# Altium footprint library Inductors SMD.PcbLib: 75 footprints (part 2 of 5)
Each footprint in its own frame and in the unit in brackets; x right, y up, seen from the top. Pads: shape width x height; smd on the part's side, far side on the other; paste and mask are expansions set on the pad; w line width, h text height; cw(c..) or ccw(c..) is an arc to the next point about the centre after c.
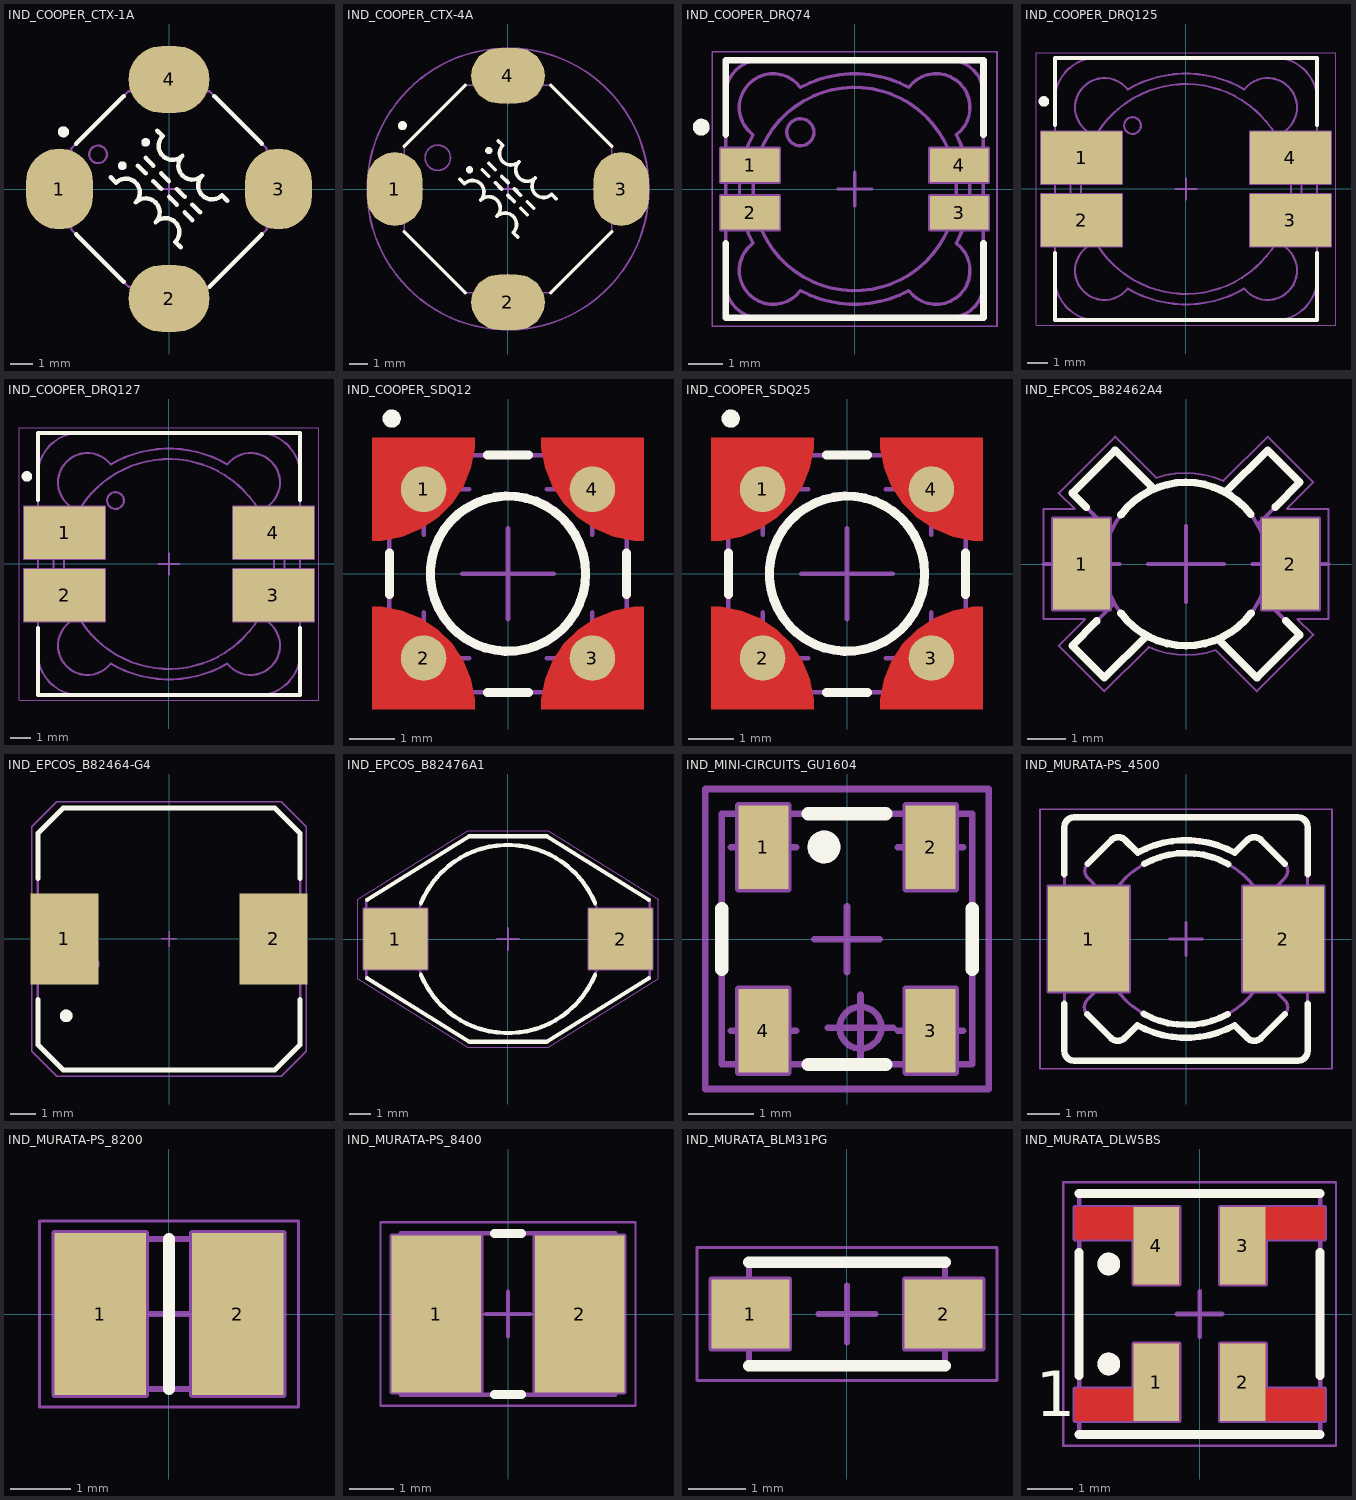
[diagram p1: the footprints below, top view; thin cyan lines are the x and y axes]

## IND_COOPER_CTX-1A [mm] "Dual Winding Shielded Power Inductor/Transformer CTX OCTA-PAC® PLUS Serie"
height 4.19
pads (4):
  oval 3.04x3.68 smd: 1(-4.98,0) 3(4.98,0)
  oval 3.68x3.04 smd: 2(0,-4.98) 4(0,4.98)
Top Overlay:
  circle w0.25: c-4.8,2.6 r0.125
  circle w0.2: c-2.121,1.061 r0.1
  circle w0.2: c-1.061,2.121 r0.1
  lines w0.2: -2.652,0.53 -2.408,0.286 cw(c-1.959,-0.163) -1.51,-0.612 cw(c-1.061,-1.061) -0.612,-1.51 cw(c-0.163,-1.959) 0.286,-2.408 0.53,-2.652 ; -1.414,1.061 -1.061,0.707 ; -1.061,1.414 -0.707,1.061 ; -0.707,0.354 -0.354,0 ; -0.53,2.652 -0.286,2.408 ccw(c0.163,1.959) 0.612,1.51 ccw(c1.061,1.061) 1.51,0.612 ccw(c1.959,0.163) 2.408,-0.286 2.652,-0.53 ; -0.354,0.707 0,0.354 ; 0,-0.354 0.354,-0.707 ; 0.354,0 0.707,-0.354 ; 0.707,-1.061 1.061,-1.414 ; 1.061,-0.707 1.414,-1.061 ; -4.225,2.06 -2.06,4.225 -4.225,2.06 ; -4.225,-2.06 -2.06,-4.225 -4.225,-2.06 ; 1.84,-4.445 4.225,-2.06 1.84,-4.445 ; 2.06,4.225 4.225,2.06 2.06,4.225
Mechanical 8:
  lines w0.1: -4.98,0 -4.98,-0.5 -4.98,0 ; -4.98,0 -4.48,0 -4.98,0 ; -4.98,0 -4.98,0.5 -4.98,0 ; -4.98,0 -5.48,0 -4.98,0 ; 0,-4.98 -0.5,-4.98 0,-4.98 ; 0,-4.98 0,-5.48 0,-4.98 ; 0,-4.98 0.5,-4.98 0,-4.98 ; 0,-4.98 0,-4.48 0,-4.98 ; 0,0 -0.5,0 0,0 ; 0,0 0,-0.5 0,0 ; 0,0 0.5,0 0,0 ; 0,0 0,0.5 0,0 ; 0,4.98 -0.5,4.98 0,4.98 ; 0,4.98 0,4.48 0,4.98 ; 0,4.98 0.5,4.98 0,4.98 ; 0,4.98 0,5.48 0,4.98 ; 4.98,0 4.98,-0.5 4.98,0 ; 4.98,0 5.48,0 4.98,0 ; 4.98,0 4.98,0.5 4.98,0 ; 4.98,0 4.48,0 4.98,0
Mechanical 14:
  circle w0.1: c-2.121,1.061 r0.1
  circle w0.1: c-1.061,2.121 r0.1
  circle w0.1: c-3.225,1.575 r0.4
  lines w0.1: -2.652,0.53 -2.408,0.286 cw(c-1.959,-0.163) -1.51,-0.612 cw(c-1.061,-1.061) -0.612,-1.51 cw(c-0.163,-1.959) 0.286,-2.408 0.53,-2.652 ; -1.414,1.061 -1.061,0.707 ; -1.061,1.414 -0.707,1.061 ; -0.707,0.354 -0.354,0 ; -0.53,2.652 -0.286,2.408 ccw(c0.163,1.959) 0.612,1.51 ccw(c1.061,1.061) 1.51,0.612 ccw(c1.959,0.163) 2.408,-0.286 2.652,-0.53 ; -0.354,0.707 0,0.354 ; 0,-0.354 0.354,-0.707 ; 0.354,0 0.707,-0.354 ; 0.707,-1.061 1.061,-1.414 ; 1.061,-0.707 1.414,-1.061 ; -5.715,-0.6 -5.715,0.6 ; -5.715,-0.6 -4.445,-0.6 ; -5.715,-0.6 -5.715,0.6 ; -5.715,-0.6 -4.445,-0.6 ; -5.715,0.6 -4.445,0.6 ; -5.715,0.6 -4.445,0.6 ; -4.445,-1.84 -1.84,-4.445 ; -4.445,-1.84 -4.445,1.84 ; -4.445,-1.84 -1.84,-4.445 ; -4.445,-1.84 -4.445,1.84 ; -4.445,-0.6 -4.445,0.6 ; -4.445,-0.6 -4.445,0.6 ; -4.445,1.84 -1.84,4.445 ; -4.445,1.84 -1.84,4.445 ; -1.84,-4.445 1.84,-4.445 ; -1.84,-4.445 1.84,-4.445 ; -1.84,4.445 1.84,4.445 ; -1.84,4.445 1.84,4.445 ; -0.6,-5.715 0.6,-5.715 ; -0.6,-5.715 -0.6,-4.445 ; -0.6,-5.715 0.6,-5.715 ; -0.6,-5.715 -0.6,-4.445 ; -0.6,-4.445 0.6,-4.445 ; -0.6,-4.445 0.6,-4.445 ; -0.6,4.445 -0.6,5.715 ; -0.6,4.445 0.6,4.445 ; -0.6,4.445 -0.6,5.715 ; -0.6,4.445 0.6,4.445 ; -0.6,5.715 0.6,5.715 ; -0.6,5.715 0.6,5.715 ; 0.6,-5.715 0.6,-4.445 ; 0.6,-5.715 0.6,-4.445 ; 0.6,4.445 0.6,5.715 ; 0.6,4.445 0.6,5.715 ; 1.84,-4.445 4.445,-1.84 ; 1.84,-4.445 4.445,-1.84 ; 1.84,4.445 4.445,1.84 ; 1.84,4.445 4.445,1.84 ; 4.445,-1.84 4.445,1.84 ; 4.445,-1.84 4.445,1.84 ; 4.445,-0.6 4.445,0.6 ; 4.445,-0.6 5.715,-0.6 ; 4.445,-0.6 4.445,0.6 ; 4.445,-0.6 5.715,-0.6 ; 4.445,0.6 5.715,0.6 ; 4.445,0.6 5.715,0.6 ; 5.715,-0.6 5.715,0.6 ; 5.715,-0.6 5.715,0.6
  text "3" at 3.225,-0.65 h1.2
  text "4" at -0.425,2.75 h1.2
  text "2" at -0.425,-4 h1.2
  text "1" at -3.825,-0.575 h1.2
3D body "IND_COOPER_CTX-1A.stp": height 4.19, standoff 0, extent -5.715,-5.715 5.715,5.715

## IND_COOPER_CTX-4A [mm] "Dual Winding Shielded Power Inductor/Transformer CTX OCTA-PAC® PLUS Serie"
height 6.35
pads (4):
  oval 3.05x4.06 smd: 1(-6.25,0) 3(6.25,0)
  oval 4.06x3.05 smd: 2(0,-6.25) 4(0,6.25)
Top Overlay:
  circle w0.25: c-5.825,3.5 r0.125
  circle w0.2: c-2.121,1.061 r0.1
  circle w0.2: c-1.061,2.121 r0.1
  lines w0.2: -5.722,-2.36 -2.36,-5.722 ; -5.722,2.36 -2.36,5.722 ; -2.652,0.53 -2.408,0.286 cw(c-1.959,-0.163) -1.51,-0.612 cw(c-1.061,-1.061) -0.612,-1.51 cw(c-0.163,-1.959) 0.286,-2.408 0.53,-2.652 ; -1.414,1.061 -1.061,0.707 ; -1.061,1.414 -0.707,1.061 ; -0.707,0.354 -0.354,0 ; -0.53,2.652 -0.286,2.408 ccw(c0.163,1.959) 0.612,1.51 ccw(c1.061,1.061) 1.51,0.612 ccw(c1.959,0.163) 2.408,-0.286 2.652,-0.53 ; -0.354,0.707 0,0.354 ; 0,-0.354 0.354,-0.707 ; 0.354,0 0.707,-0.354 ; 0.707,-1.061 1.061,-1.414 ; 1.061,-0.707 1.414,-1.061 ; 2.36,-5.722 5.722,-2.36 ; 2.36,5.722 5.722,2.36
Mechanical 8:
  lines w0.1: -7.775,0 -4.725,0 -6.25,0 ; -6.25,-2.03 -6.25,0 ; -6.25,2.03 -6.25,0 ; -2.03,6.25 0,6.25 ; -0.5,0 0,0 ; 0,-7.775 0,-6.25 ; 0,-4.725 0,-6.25 ; 0,-0.5 0,0 ; 0,0.5 0,0 ; 0,4.725 0,6.25 ; 0,7.775 0,6.25 ; 0.5,0 0,0 ; 2.03,-6.25 -2.03,-6.25 0,-6.25 ; 2.03,6.25 0,6.25 ; 4.725,0 6.25,0 ; 6.25,-2.03 6.25,0 ; 6.25,2.03 6.25,0 ; 7.775,0 6.25,0
Mechanical 14:
  circle w0.1: c-2.121,1.061 r0.1
  circle w0.1: c-1.061,2.121 r0.1
  circle w0.1: c-3.875,1.725 r0.7
  lines w0.1: -5.722,-1.18 -7.285,-1.18 -7.285,1.18 -5.722,1.18 ; -2.652,0.53 -2.408,0.286 cw(c-1.959,-0.163) -1.51,-0.612 cw(c-1.061,-1.061) -0.612,-1.51 cw(c-0.163,-1.959) 0.286,-2.408 0.53,-2.652 ; -1.414,1.061 -1.061,0.707 ; -1.18,-5.722 -1.18,-7.285 1.18,-7.285 1.18,-5.722 ; -1.18,5.722 -1.18,7.285 1.18,7.285 1.18,5.722 ; -1.061,1.414 -0.707,1.061 ; -0.707,0.354 -0.354,0 ; -0.53,2.652 -0.286,2.408 ccw(c0.163,1.959) 0.612,1.51 ccw(c1.061,1.061) 1.51,0.612 ccw(c1.959,0.163) 2.408,-0.286 2.652,-0.53 ; -0.354,0.707 0,0.354 ; 0,-0.354 0.354,-0.707 ; 0.354,0 0.707,-0.354 ; 0.707,-1.061 1.061,-1.414 ; 1.061,-0.707 1.414,-1.061 ; 5.722,-1.18 7.285,-1.18 7.285,1.18 5.722,1.18 ; -5.722,-2.36 -5.722,2.36 -2.36,5.722 2.36,5.722 5.722,2.36 5.722,-2.36 2.36,-5.722 -2.36,-5.722 -5.722,-2.36
  text "3" at 3.225,-0.65 h1.2
  text "4" at -0.425,2.75 h1.2
  text "2" at -0.425,-4 h1.2
  text "1" at -3.825,-0.575 h1.2
Mechanical 15:
  circle w0.1: c0,0 r7.775
3D body "IND_COOPER_CTX-4A.stp": height 6.35, standoff 0, extent -7.285,-7.285 7.285,7.285

## IND_COOPER_DRQ74 [mm] "Dual Winding Shielded Inductor/Transformer DRQ Serie"
height 4.45
pads (4):
  rect 1.73x1 smd: 1(-3.085,0.7) 2(-3.085,-0.7) 3(3.085,-0.7) 4(3.085,0.7)
Top Overlay:
  circle w0.25: c-4.525,1.825 r0.125
  lines w0.2: -3.8,-1.6 -3.8,-3.8 3.8,-3.8 3.8,-1.6 ; -3.8,1.6 -3.8,3.8 3.8,3.8 3.8,1.6
Mechanical 8:
  lines w0.1: -3.585,-0.7 -3.085,-0.7 ; -3.585,0.7 -3.085,0.7 ; -3.085,-1.2 -3.085,-0.7 ; -3.085,-0.2 -3.085,-0.7 ; -3.085,0.2 -3.085,0.7 ; -3.085,1.2 -3.085,0.7 ; -2.585,-0.7 -3.085,-0.7 ; -2.585,0.7 -3.085,0.7 ; -0.5,0 0,0 ; 0,-0.5 0,0 ; 0,0.5 0,0 ; 0.5,0 0,0 ; 2.585,-0.7 3.085,-0.7 ; 2.585,0.7 3.085,0.7 ; 3.085,-1.2 3.085,-0.7 ; 3.085,-0.2 3.085,-0.7 ; 3.085,0.2 3.085,0.7 ; 3.085,1.2 3.085,0.7 ; 3.585,-0.7 3.085,-0.7 ; 3.585,0.7 3.085,0.7 ; -3.95,-1.2 -3.95,-0.2 -2.22,-0.2 -2.22,-1.2 -3.95,-1.2 ; -3.95,0.2 -3.95,1.2 -2.22,1.2 -2.22,0.2 -3.95,0.2 ; 2.22,-1.2 2.22,-0.2 3.95,-0.2 3.95,-1.2 2.22,-1.2 ; 2.22,0.2 2.22,1.2 3.95,1.2 3.95,0.2 2.22,0.2
Mechanical 14:
  circle w0.1: c-1.6,1.675 r0.4
  circle w0.1: c0,0 r3
  lines w0.1: -3.8,-2.8 ccw(c-2.8,-2.8) -2.8,-3.8 2.8,-3.8 ccw(c2.8,-2.8) 3.8,-2.8 3.8,2.8 ccw(c2.8,2.8) 2.8,3.8 -2.8,3.8 ccw(c-2.8,2.8) -3.8,2.8 -3.8,-2.8 ; -3,-1.601 cw(c0,0) -3,1.601 cw(c-2.404,2.404) -1.601,3 cw(c0,0) 1.601,3 cw(c2.404,2.404) 3,1.601 cw(c0,0) 3,-1.601 cw(c2.404,-2.404) 1.601,-3 cw(c0,0) -1.601,-3 cw(c-2.404,-2.404) -3,-1.601
Mechanical 15:
  lines w0.05: -4.2,-4.05 4.2,-4.05 4.2,4.05 -4.2,4.05 -4.2,-4.05
3D body "IND_COOPER_DRQ74.stp": height 4.45, standoff 0, extent -3.8,-3.8 3.8,3.8

## IND_COOPER_DRQ125 [mm] "Dual Winding Shielded Inductor/Transformer DRQ Serie"
height 6
pads (4):
  rect 3.85x2.5 smd: 1(-4.975,1.5) 2(-4.975,-1.5) 3(4.975,-1.5) 4(4.975,1.5)
Top Overlay:
  circle w0.25: c-6.775,4.175 r0.125
  lines w0.2: -6.25,-3.05 -6.25,-6.25 6.25,-6.25 6.25,-3.05 ; -6.25,3.05 -6.25,6.25 6.25,6.25 6.25,3.05
Mechanical 8:
  lines w0.1: -5.475,-1.5 -4.975,-1.5 ; -5.475,1.5 -4.975,1.5 ; -4.975,-2 -4.975,-1.5 ; -4.975,-1 -4.975,-1.5 ; -4.975,1 -4.975,1.5 ; -4.975,2 -4.975,1.5 ; -4.475,-1.5 -4.975,-1.5 ; -4.475,1.5 -4.975,1.5 ; -0.5,0 0,0 ; 0,-0.5 0,0 ; 0,0.5 0,0 ; 0.5,0 0,0 ; 4.475,1.5 4.975,1.5 ; 4.975,1 4.975,1.5 ; 4.975,2 4.975,1.5 ; 5.475,1.5 4.975,1.5 ; -6.9,-2.75 -6.9,-0.25 -3.05,-0.25 -3.05,-2.75 -6.9,-2.75 ; -6.9,0.25 -6.9,2.75 -3.05,2.75 -3.05,0.25 -6.9,0.25 ; 3.05,-2.75 3.05,-0.25 6.9,-0.25 6.9,-2.75 3.05,-2.75 ; 3.05,0.25 3.05,2.75 6.9,2.75 6.9,0.25 3.05,0.25
Mechanical 14:
  circle w0.1: c-2.55,3.025 r0.4
  circle w0.1: c0,0 r5
  lines w0.1: -4.25,6.25 ccw(c-4.25,4.25) -6.25,4.25 -6.25,-4.25 ccw(c-4.25,-4.25) -4.25,-6.25 4.25,-6.25 ccw(c4.25,-4.25) 6.25,-4.25 6.25,4.25 ccw(c4.25,4.25) 4.25,6.25 ; -4.25,6.25 4.25,6.25 ; -4.25,6.25 4.25,6.25 ; -4.745,-2.781 cw(c0,0) -4.745,2.781 cw(c-3.889,3.889) -2.781,4.745 cw(c0,0) 2.781,4.745 cw(c3.889,3.889) 4.745,2.781 cw(c0,0) 4.745,-2.781 cw(c3.889,-3.889) 2.781,-4.745 cw(c0,0) -2.781,-4.745 cw(c-3.889,-3.889) -4.745,-2.781
Mechanical 15:
  lines w0.05: -7.15,-6.5 -7.15,6.5 7.15,6.5 7.15,-6.5 -7.15,-6.5
3D body "IND_COOPER_DRQ125.stp": height 6, standoff 0, extent -6.25,-6.25 6.25,6.25

## IND_COOPER_DRQ127 [mm] "Dual Winding Shielded Inductor/Transformer DRQ Serie"
height 8
pads (4):
  rect 3.85x2.5 smd: 1(-4.975,1.5) 2(-4.975,-1.5) 3(4.975,-1.5) 4(4.975,1.5)
Top Overlay:
  circle w0.25: c-6.775,4.175 r0.125
  lines w0.2: -6.25,-3.05 -6.25,-6.25 6.25,-6.25 6.25,-3.05 ; -6.25,3.05 -6.25,6.25 6.25,6.25 6.25,3.05
Mechanical 8:
  lines w0.1: -5.475,-1.5 -4.975,-1.5 ; -5.475,1.5 -4.975,1.5 ; -4.975,-2 -4.975,-1.5 ; -4.975,-1 -4.975,-1.5 ; -4.975,1 -4.975,1.5 ; -4.975,2 -4.975,1.5 ; -4.475,-1.5 -4.975,-1.5 ; -4.475,1.5 -4.975,1.5 ; -0.5,0 0,0 ; 0,-0.5 0,0 ; 0,0.5 0,0 ; 0.5,0 0,0 ; 4.475,1.5 4.975,1.5 ; 4.975,1 4.975,1.5 ; 4.975,2 4.975,1.5 ; 5.475,1.5 4.975,1.5 ; -6.9,-2.75 -6.9,-0.25 -3.05,-0.25 -3.05,-2.75 -6.9,-2.75 ; -6.9,0.25 -6.9,2.75 -3.05,2.75 -3.05,0.25 -6.9,0.25 ; 3.05,-2.75 3.05,-0.25 6.9,-0.25 6.9,-2.75 3.05,-2.75 ; 3.05,0.25 3.05,2.75 6.9,2.75 6.9,0.25 3.05,0.25
Mechanical 14:
  circle w0.1: c-2.55,3.025 r0.4
  circle w0.1: c0,0 r5
  lines w0.1: -4.25,6.25 ccw(c-4.25,4.25) -6.25,4.25 -6.25,-4.25 ccw(c-4.25,-4.25) -4.25,-6.25 4.25,-6.25 ccw(c4.25,-4.25) 6.25,-4.25 6.25,4.25 ccw(c4.25,4.25) 4.25,6.25 ; -4.25,6.25 4.25,6.25 ; -4.25,6.25 4.25,6.25 ; -4.745,-2.781 cw(c0,0) -4.745,2.781 cw(c-3.889,3.889) -2.781,4.745 cw(c0,0) 2.781,4.745 cw(c3.889,3.889) 4.745,2.781 cw(c0,0) 4.745,-2.781 cw(c3.889,-3.889) 2.781,-4.745 cw(c0,0) -2.781,-4.745 cw(c-3.889,-3.889) -4.745,-2.781
Mechanical 15:
  lines w0.05: -7.15,-6.5 -7.15,6.5 7.15,6.5 7.15,-6.5 -7.15,-6.5
3D body "IND_COOPER_DRQ127.stp": height 8, standoff 0, extent -6.25,-6.25 6.25,6.25

## IND_COOPER_SDQ12 [mm] "Low-Profile Dual Winding Shielded Inductor/Transformer SDQ Serie"
height 1.2
pads (4):
  round 1 smd: 1(-1.85,1.85) 2(-1.85,-1.85) 3(1.85,-1.85) 4(1.85,1.85)
Top Layer:
  region: -2.975,-2.975 -0.725,-2.975 -0.725,-2.753 -0.811,-2.319 -0.981,-1.909 -1.227,-1.541 -1.541,-1.227 -1.909,-0.981 -2.319,-0.811 -2.753,-0.725 -2.975,-0.725
  region: 2.975,2.975 0.725,2.975 0.725,2.753 0.811,2.319 0.981,1.909 1.227,1.541 1.541,1.227 1.909,0.981 2.319,0.811 2.753,0.725 2.975,0.725
  region: 2.975,-2.975 2.975,-0.725 2.753,-0.725 2.319,-0.811 1.909,-0.981 1.541,-1.227 1.227,-1.541 0.981,-1.909 0.811,-2.319 0.725,-2.753 0.725,-2.975
  region: -2.975,2.975 -2.975,0.725 -2.753,0.725 -2.319,0.811 -1.909,0.981 -1.541,1.227 -1.227,1.541 -0.981,1.909 -0.811,2.319 -0.725,2.753 -0.725,2.975
Top Overlay:
  circle w0.2: c0,0 r1.7
  circle w0.2: c-2.55,3.4 r0.1
  lines w0.2: -2.6,-0.453 -2.6,0.453 ; -0.453,-2.6 0.453,-2.6 ; -0.453,2.6 0.453,2.6 ; 2.6,-0.453 2.6,0.453
Top Paste:
  region: -2.975,2.975 -2.975,0.725 -2.753,0.725 -2.319,0.811 -1.909,0.981 -1.541,1.227 -1.227,1.541 -0.981,1.909 -0.811,2.319 -0.725,2.753 -0.725,2.975
  region: 2.975,2.975 0.725,2.975 0.725,2.753 0.811,2.319 0.981,1.909 1.227,1.541 1.541,1.227 1.909,0.981 2.319,0.811 2.753,0.725 2.975,0.725
  region: -2.975,-2.975 -0.725,-2.975 -0.725,-2.753 -0.811,-2.319 -0.981,-1.909 -1.227,-1.541 -1.541,-1.227 -1.909,-0.981 -2.319,-0.811 -2.753,-0.725 -2.975,-0.725
  region: 2.975,-2.975 2.975,-0.725 2.753,-0.725 2.319,-0.811 1.909,-0.981 1.541,-1.227 1.227,-1.541 0.981,-1.909 0.811,-2.319 0.725,-2.753 0.725,-2.975
Top Solder:
  region: 0.627,-3.075 0.617,-2.831 0.697,-2.35 0.874,-1.895 1.141,-1.486 1.486,-1.141 1.895,-0.874 2.35,-0.697 2.831,-0.617 3.075,-0.627 3.075,-3.075
  region: 3.075,0.627 2.831,0.617 2.35,0.697 1.895,0.874 1.486,1.141 1.141,1.486 0.874,1.895 0.697,2.35 0.617,2.831 0.627,3.075 3.075,3.075
  region: -3.075,-0.627 -2.831,-0.617 -2.35,-0.697 -1.895,-0.874 -1.486,-1.141 -1.141,-1.486 -0.874,-1.895 -0.697,-2.35 -0.617,-2.831 -0.627,-3.075 -3.075,-3.075
  region: -0.627,3.075 -0.617,2.831 -0.697,2.35 -0.874,1.895 -1.141,1.486 -1.486,1.141 -1.895,0.874 -2.35,0.697 -2.831,0.617 -3.075,0.627 -3.075,3.075
Mechanical 8:
  lines w0.1: -2.85,-1.85 -1.85,-1.85 ; -2.85,1.85 -1.85,1.85 ; -1.85,-2.85 -1.85,-1.85 ; -1.85,-0.85 -1.85,-1.85 ; -1.85,0.85 -1.85,1.85 ; -1.85,2.85 -1.85,1.85 ; -1,0 0,0 ; -0.85,-1.85 -1.85,-1.85 ; -0.85,1.85 -1.85,1.85 ; 0,-1 0,0 ; 0,1 0,0 ; 0.85,-1.85 1.85,-1.85 ; 0.85,1.85 1.85,1.85 ; 1,0 0,0 ; 1.85,-2.85 1.85,-1.85 ; 1.85,-0.85 1.85,-1.85 ; 1.85,0.85 1.85,1.85 ; 1.85,2.85 1.85,1.85 ; 2.85,-1.85 1.85,-1.85 ; 2.85,1.85 1.85,1.85
Mechanical 14:
  circle w0.1: c0,0 r1.75
  circle w0.1: c-2.55,3.4 r0.1
  lines w0.1: -2.6,-2.6 -2.6,2.6 2.6,2.6 2.6,-2.6 -2.6,-2.6
3D body "IND_COOPER_SDQ12.stp": height 1.2, standoff 0, extent -2.6,-2.6 2.6,2.6

## IND_COOPER_SDQ25 [mm] "Low-Profile Dual Winding Shielded Inductor/Transformer SDQ Serie"
height 2.5
pads (4):
  round 1 smd: 1(-1.85,1.85) 2(-1.85,-1.85) 3(1.85,-1.85) 4(1.85,1.85)
Top Layer:
  region: -2.975,-2.975 -0.725,-2.975 -0.725,-2.753 -0.811,-2.319 -0.981,-1.909 -1.227,-1.541 -1.541,-1.227 -1.909,-0.981 -2.319,-0.811 -2.753,-0.725 -2.975,-0.725
  region: 2.975,2.975 0.725,2.975 0.725,2.753 0.811,2.319 0.981,1.909 1.227,1.541 1.541,1.227 1.909,0.981 2.319,0.811 2.753,0.725 2.975,0.725
  region: 2.975,-2.975 2.975,-0.725 2.753,-0.725 2.319,-0.811 1.909,-0.981 1.541,-1.227 1.227,-1.541 0.981,-1.909 0.811,-2.319 0.725,-2.753 0.725,-2.975
  region: -2.975,2.975 -2.975,0.725 -2.753,0.725 -2.319,0.811 -1.909,0.981 -1.541,1.227 -1.227,1.541 -0.981,1.909 -0.811,2.319 -0.725,2.753 -0.725,2.975
Top Overlay:
  circle w0.2: c0,0 r1.7
  circle w0.2: c-2.55,3.4 r0.1
  lines w0.2: -2.6,-0.453 -2.6,0.453 ; -0.453,-2.6 0.453,-2.6 ; -0.453,2.6 0.453,2.6 ; 2.6,-0.453 2.6,0.453
Top Paste:
  region: -2.975,2.975 -2.975,0.725 -2.753,0.725 -2.319,0.811 -1.909,0.981 -1.541,1.227 -1.227,1.541 -0.981,1.909 -0.811,2.319 -0.725,2.753 -0.725,2.975
  region: 2.975,2.975 0.725,2.975 0.725,2.753 0.811,2.319 0.981,1.909 1.227,1.541 1.541,1.227 1.909,0.981 2.319,0.811 2.753,0.725 2.975,0.725
  region: -2.975,-2.975 -0.725,-2.975 -0.725,-2.753 -0.811,-2.319 -0.981,-1.909 -1.227,-1.541 -1.541,-1.227 -1.909,-0.981 -2.319,-0.811 -2.753,-0.725 -2.975,-0.725
  region: 2.975,-2.975 2.975,-0.725 2.753,-0.725 2.319,-0.811 1.909,-0.981 1.541,-1.227 1.227,-1.541 0.981,-1.909 0.811,-2.319 0.725,-2.753 0.725,-2.975
Top Solder:
  region: 0.627,-3.075 0.617,-2.831 0.697,-2.35 0.874,-1.895 1.141,-1.486 1.486,-1.141 1.895,-0.874 2.35,-0.697 2.831,-0.617 3.075,-0.627 3.075,-3.075
  region: 3.075,0.627 2.831,0.617 2.35,0.697 1.895,0.874 1.486,1.141 1.141,1.486 0.874,1.895 0.697,2.35 0.617,2.831 0.627,3.075 3.075,3.075
  region: -3.075,-0.627 -2.831,-0.617 -2.35,-0.697 -1.895,-0.874 -1.486,-1.141 -1.141,-1.486 -0.874,-1.895 -0.697,-2.35 -0.617,-2.831 -0.627,-3.075 -3.075,-3.075
  region: -0.627,3.075 -0.617,2.831 -0.697,2.35 -0.874,1.895 -1.141,1.486 -1.486,1.141 -1.895,0.874 -2.35,0.697 -2.831,0.617 -3.075,0.627 -3.075,3.075
Mechanical 8:
  lines w0.1: -2.85,-1.85 -1.85,-1.85 ; -2.85,1.85 -1.85,1.85 ; -1.85,-2.85 -1.85,-1.85 ; -1.85,-0.85 -1.85,-1.85 ; -1.85,0.85 -1.85,1.85 ; -1.85,2.85 -1.85,1.85 ; -1,0 0,0 ; -0.85,-1.85 -1.85,-1.85 ; -0.85,1.85 -1.85,1.85 ; 0,-1 0,0 ; 0,1 0,0 ; 0.85,-1.85 1.85,-1.85 ; 0.85,1.85 1.85,1.85 ; 1,0 0,0 ; 1.85,-2.85 1.85,-1.85 ; 1.85,-0.85 1.85,-1.85 ; 1.85,0.85 1.85,1.85 ; 1.85,2.85 1.85,1.85 ; 2.85,-1.85 1.85,-1.85 ; 2.85,1.85 1.85,1.85
Mechanical 14:
  circle w0.1: c0,0 r1.75
  circle w0.1: c-2.55,3.4 r0.1
  lines w0.1: -2.6,-2.6 -2.6,2.6 2.6,2.6 2.6,-2.6 -2.6,-2.6
3D body "IND_COOPER_SDQ25.stp": height 2.5, standoff 0, extent -2.6,-2.6 2.6,2.6

## IND_EPCOS_B82462A4 [mm] "SMD Inductor  Body Width 6mm Body Lenght 6mm Height 3mm"
height 3
pads (2):
  rect 1.5x2.4 smd: 1(-2.75,0) 2(2.75,0)
Top Overlay:
  lines w0.2: -2.628,1.497 -3,1.869 -1.869,3 -0.845,1.977 ; -2.349,-1.501 -3,-2.151 -2.151,-3 -1.036,-1.884 ; -1.717,-1.294 ccw(c0,0) 1.717,-1.294 ; -1.717,1.294 cw(c0,0) 1.708,1.306 ; 0.845,-1.977 1.869,-3 3,-1.869 2.628,-1.497 ; 1.036,1.884 2.151,3 3,2.151 2.349,1.501
Mechanical 8:
  lines w0.1: -3.75,0 -2.75,0 ; -2.75,-1 -2.75,0 ; -2.75,1 -2.75,0 ; -1.75,0 -2.75,0 ; -1,0 0,0 ; 0,-1 0,0 ; 0,1 0,0 ; 1,0 0,0 ; 1.75,0 2.75,0 ; 2.75,-1 2.75,0 ; 2.75,1 2.75,0 ; 3.75,0 2.75,0 ; -3.5,-1.2 -3.5,1.2 -2,1.2 -2,-1.2 -3.5,-1.2 ; 2,-1.2 2,1.2 3.5,1.2 3.5,-1.2 2,-1.2
Mechanical 14:
  circle w0.1: c0,0 r2.15
  lines w0.1: -1.036,-1.884 -2.151,-3 -3,-2.151 -1.884,-1.036 -1.903,-1 -3,-1 -3,1 -2.131,1 -3,1.869 -1.869,3 -0.845,1.977 ; 0.845,-1.977 1.869,-3 3,-1.869 2.131,-1 3,-1 3,1 1.903,1 1.884,1.036 3,2.151 2.151,3 1.036,1.884
Mechanical 15:
  lines w0.05: -3.75,-1.45 -2.652,-1.45 -3.354,-2.151 -2.151,-3.354 -0.986,-2.188 ccw(c0,0) 0.784,-2.268 1.869,-3.354 3.354,-1.869 2.935,-1.45 3.75,-1.45 3.75,1.45 2.652,1.45 3.354,2.151 2.151,3.354 0.986,2.188 ccw(c0,0) -0.784,2.268 -1.869,3.354 -3.354,1.869 -2.935,1.45 -3.75,1.45 -3.75,-1.45
3D body "IND_EPCOS_B82462A4.stp": height 3, standoff 0, extent -3,-3 3,3

## IND_EPCOS_B82464-G4 [mm] "SMD Inductor  Body Width 10.4mm Body Lenght 10.4mm Height 4.8mm"
height 4.8
pads (2):
  rect 2.7x3.6 smd: 1(-4.15,0) 2(4.15,0)
Top Overlay:
  circle w0.25: c-4.075,-3.05 r0.125
  lines w0.2: -5.2,-2.4 -5.2,-4.2 -4.2,-5.2 4.2,-5.2 5.2,-4.2 5.2,-2.4 ; -5.2,2.4 -5.2,4.2 -4.2,5.2 4.2,5.2 5.2,4.2 5.2,2.4
Mechanical 14:
  circle w0.25: c-4.075,-3.05 r0.125
  circle w0.25: c-3,-1 r0.125
  lines w0.1: -5.2,-4.2 -4.2,-5.2 4.2,-5.2 5.2,-4.2 5.2,4.2 4.2,5.2 -4.2,5.2 -5.2,4.2 -5.2,-4.2
Mechanical 15:
  lines w0.05: -0.3,0 0.3,0 ; 0,-0.3 0,0.3 ; -5.45,-4.45 -4.45,-5.45 4.45,-5.45 5.45,-4.45 5.45,4.45 4.45,5.45 -4.45,5.45 -5.45,4.45 -5.45,-4.45
3D body "IND_EPCOS_B82464-G4.stp": height 4.9, standoff 0, extent -5.201,-5.201 5.199,5.199

## IND_EPCOS_B82476A1 [mm] "SMD Inductor  Body Width 9.4mm Body Lenght 12.95mm Height 5.08mm"
height 5.08
pads (2):
  rect 2.92x2.79 smd: 1(-5.145,0) 2(5.145,0)
Top Overlay:
  lines w0.2: -6.435,-1.795 -1.77,-4.7 1.77,-4.7 6.435,-1.795 ; -6.435,1.795 -1.77,4.7 1.77,4.7 6.435,1.795 ; -3.974,-1.642 ccw(c0,0) 3.974,-1.642 ; -3.974,1.642 cw(c0,0) 3.974,1.642
Mechanical 8:
  lines w0.1: -5.645,0 -5.145,0 ; -5.145,-0.5 -5.145,0 ; -5.145,0.5 -5.145,0 ; -4.645,0 -5.145,0 ; -0.5,0 0,0 ; 0,-0.5 0,0 ; 0,0.5 0,0 ; 0.5,0 0,0 ; 4.645,0 5.145,0 ; 5.145,-0.5 5.145,0 ; 5.145,0.5 5.145,0 ; 5.645,0 5.145,0 ; -6.605,-1.395 -6.605,1.395 -3.685,1.395 -3.685,-1.395 -6.605,-1.395 ; 3.685,-1.395 3.685,1.395 6.605,1.395 6.605,-1.395 3.685,-1.395
Mechanical 14:
  circle w0.1: c0,0 r4.3
  lines w0.1: -6.475,-1.27 -4.108,-1.27 ; -6.475,1.27 -4.108,1.27 ; 4.108,-1.27 6.475,-1.27 ; 4.108,1.27 6.475,1.27 ; -6.475,-1.77 -1.77,-4.7 1.77,-4.7 6.475,-1.77 6.475,1.77 1.77,4.7 -1.77,4.7 -6.475,1.77 -6.475,-1.77
Mechanical 15:
  lines w0.05: -6.855,-1.828 -1.841,-4.95 1.842,-4.95 6.855,-1.828 6.855,1.828 1.842,4.95 -1.841,4.95 -6.855,1.828 -6.855,-1.828
3D body "IND_EPCOS_B82476A1.stp": height 5.08, standoff 0, extent -6.475,-4.7 6.475,4.7

## IND_MINI-CIRCUITS_GU1604 [mm] "MINI-CIRCUITS RF Choke, Case GU1041 - Body 3.81X3.81mm"
height 3.81
pads (4):
  rect 0.76x1.27 smd: 1(-1.27,1.394) 2(1.27,1.396) 3(1.27,-1.394) 4(-1.27,-1.396)
Top Overlay:
  circle w0.25: c-0.35,1.4 r0.125
  lines w0.2: -1.905,-0.459 -1.905,0.461 ; -0.59,-1.905 0.59,-1.905 ; -0.59,1.905 0.59,1.905 ; 1.905,-0.459 1.905,0.461
Mechanical 8:
  circle w0.1: c0.205,-1.347 r0.318
  lines w0.1: -1.77,-1.396 -1.27,-1.396 ; -1.77,1.394 -1.27,1.394 ; -1.27,-1.896 -1.27,-1.396 ; -1.27,-0.896 -1.27,-1.396 ; -1.27,0.894 -1.27,1.394 ; -1.27,1.894 -1.27,1.394 ; -0.77,-1.396 -1.27,-1.396 ; -0.77,1.394 -1.27,1.394 ; -0.295,-1.347 0.205,-1.347 ; 0.205,-1.847 0.205,-1.347 ; 0.205,-0.847 0.205,-1.347 ; 0.705,-1.347 0.205,-1.347 ; 0.77,-1.394 1.27,-1.394 ; 0.77,1.396 1.27,1.396 ; 1.27,-1.894 1.27,-1.394 ; 1.27,-0.894 1.27,-1.394 ; 1.27,0.896 1.27,1.396 ; 1.27,1.896 1.27,1.396 ; 1.77,-1.394 1.27,-1.394 ; 1.77,1.396 1.27,1.396 ; 0,0 -0.5,0 0,0 ; 0,0 0,-0.5 0,0 ; 0,0 0.5,0 0,0 ; 0,0 0,0.5 0,0 ; -1.65,-2.029 -0.89,-2.029 -0.89,-0.759 -1.65,-0.759 -1.65,-2.029 ; -1.65,0.761 -0.89,0.761 -0.89,2.031 -1.65,2.031 -1.65,0.761 ; 0.89,-2.029 1.65,-2.029 1.65,-0.759 0.89,-0.759 0.89,-2.029 ; 0.89,0.761 1.65,0.761 1.65,2.031 0.89,2.031 0.89,0.761
Mechanical 14:
  circle w0.1: c-0.35,1.4 r0.2
  lines w0.1: -1.905,-1.905 1.905,-1.905 1.905,1.905 -1.905,1.905 -1.905,-1.905
Mechanical 15:
  lines w0.1: -2.155,-2.279 2.155,-2.279 2.155,2.281 -2.155,2.281 -2.155,-2.279
3D body "IND_MINI-CIRCUITS_GU1604.stp": height 3.81, standoff 0, extent -1.905,-1.905 1.905,1.905

## IND_MURATA-PS_4500 [mm] "Shielded Surface Mount Power Inductors, 7.3mm L X 7.3mm W X 3.55mm H, MURATA 4500 Serie"
height 3.55
pads (2):
  rect 2.5x3.25 smd: 1(-3,0) 2(3,0)
Top Overlay:
  lines w0.2: -3.75,-2 -3.75,-3.45 ccw(c-3.45,-3.45) -3.45,-3.75 3.45,-3.75 ccw(c3.45,-3.45) 3.75,-3.45 3.75,-2 ; -3.75,2 -3.75,3.45 cw(c-3.45,3.45) -3.45,3.75 3.45,3.75 cw(c3.45,3.45) 3.75,3.45 3.75,2 ; -3.045,-2.323 -2.323,-3.045 ccw(c-2.103,-2.826) -1.883,-3.045 -1.496,-2.658 ccw(c0,0) 1.496,-2.658 1.879,-3.04 ccw(c2.104,-2.825) 2.323,-3.045 3.045,-2.323 ; -3.029,2.323 -2.307,3.045 cw(c-2.087,2.826) -1.863,3.041 -1.486,2.664 cw(c0,0) 1.496,2.658 1.883,3.045 cw(c2.103,2.826) 2.323,3.045 3.045,2.323 ; -1.3,-2.309 ccw(c0,0) 1.291,-2.314 ; -1.291,2.314 cw(c0,0) 1.3,2.309
Top Solder:
  region: 2.85,0.6 1.7,0.6 1.7,-0.6 2.85,-0.6
  rectangle: -2.85,-0.6 -1.7,0.6
Mechanical 8:
  lines w0.1: -3.5,0 -3,0 ; -3,-0.5 -3,0 ; -3,0.5 -3,0 ; -2.5,0 -3,0 ; -0.5,0 0,0 ; 0,-0.5 0,0 ; 0,0.5 0,0 ; 0.5,0 0,0 ; 2.5,0 3,0 ; 3,-0.5 3,0 ; 3,0.5 3,0 ; 3.5,0 3,0 ; -4.25,-1.625 -1.75,-1.625 -1.75,1.625 -4.25,1.625 -4.25,-1.625 ; 1.75,-1.625 1.75,1.625 4.25,1.625 4.25,-1.625 1.75,-1.625
Mechanical 14:
  circle w0.1: c0,0 r2.65
  lines w0.1: -1.5,3.75 1.5,3.75 ; -3.75,-3.45 ccw(c-3.45,-3.45) -3.45,-3.75 3.45,-3.75 ccw(c3.45,-3.45) 3.75,-3.45 3.75,3.45 ccw(c3.45,3.45) 3.45,3.75 -3.45,3.75 ccw(c-3.45,3.45) -3.75,3.45 -3.75,-3.45 ; -3.045,-2.323 cw(c-2.825,-2.104) -3.04,-1.879 -2.658,-1.496 cw(c0,0) -2.652,1.506 -3.029,1.884 cw(c-2.809,2.103) -3.029,2.323 -2.307,3.045 cw(c-2.087,2.826) -1.863,3.041 -1.486,2.664 cw(c0,0) 1.496,2.658 1.883,3.045 cw(c2.103,2.826) 2.323,3.045 3.045,2.323 cw(c2.825,2.104) 3.04,1.879 2.658,1.496 cw(c0,0) 2.658,-1.496 3.045,-1.883 cw(c2.826,-2.103) 3.045,-2.323 2.323,-3.045 cw(c2.104,-2.825) 1.879,-3.04 1.496,-2.658 cw(c0,0) -1.496,-2.658 -1.883,-3.045 cw(c-2.103,-2.826) -2.323,-3.045 -3.045,-2.323
Mechanical 15:
  lines w0.05: -4.5,-4 4.5,-4 4.5,4 -4.5,4 -4.5,-4
3D body "IND_MURATA-PS_4500.stp": height 3.55, standoff 0, extent -3.75,-3.75 3.75,3.75

## IND_MURATA-PS_8200 [mm] "Miniature Surface Mount Power Inductors, 3.2mm L X 2.5mm W X 2.3mm H, MURATA 8200 Serie"
height 2.3
pads (2):
  rect 1.52x2.7 smd: 1(-1.145,0) 2(1.145,0)
Top Overlay:
  lines w0.2: 0,-1.25 0,1.25
Mechanical 8:
  lines w0.1: -1.645,0 -1.145,0 ; -1.145,-0.5 -1.145,0 ; -1.145,0.5 -1.145,0 ; -0.645,0 -1.145,0 ; -0.5,0 0,0 ; 0,-0.5 0,0 ; 0,0.5 0,0 ; 0.5,0 0,0 ; 0.645,0 1.145,0 ; 1.145,-0.5 1.145,0 ; 1.145,0.5 1.145,0 ; 1.645,0 1.145,0 ; -1.905,-1.35 -1.905,1.35 -0.385,1.35 -0.385,-1.35 -1.905,-1.35 ; 0.385,-1.35 0.385,1.35 1.905,1.35 1.905,-1.35 0.385,-1.35
Mechanical 14:
  lines w0.1: -1.193,-1.25 cw(c-1.193,-1.15) -1.293,-1.15 -1.293,1.15 cw(c-1.193,1.15) -1.193,1.25 ; 1.193,-1.25 ccw(c1.193,-1.15) 1.293,-1.15 1.293,1.15 ccw(c1.193,1.15) 1.193,1.25 ; -1.6,-1.25 -1.6,1.25 1.6,1.25 1.6,-1.25 -1.6,-1.25
Mechanical 15:
  lines w0.05: -2.155,-1.55 2.155,-1.55 2.155,1.55 -2.155,1.55 -2.155,-1.55
3D body "IND_MURATA-PS_8200.stp": height 2.3, standoff 0, extent -1.6,-1.25 1.6,1.25

## IND_MURATA-PS_8400 [mm] "Miniature Surface Mount Power Inductors, 4.5mm L X 3.3mm W X 2.9mm H, MURATA 8400 Serie"
height 2.9
pads (2):
  rect 2x3.5 smd: 1(-1.6,0) 2(1.6,0)
Top Overlay:
  lines w0.2: -0.3,-1.8 0.3,-1.8 ; -0.3,1.8 0.3,1.8
Mechanical 8:
  lines w0.1: -2.1,0 -1.6,0 ; -1.6,-0.5 -1.6,0 ; -1.6,0.5 -1.6,0 ; -1.1,0 -1.6,0 ; -0.5,0 0,0 ; 0,-0.5 0,0 ; 0,0.5 0,0 ; 0.5,0 0,0 ; 1.1,0 1.6,0 ; 1.6,-0.5 1.6,0 ; 1.6,0.5 1.6,0 ; 2.1,0 1.6,0 ; -2.6,-1.75 -2.6,1.75 -0.6,1.75 -0.6,-1.75 -2.6,-1.75 ; 0.6,-1.75 0.6,1.75 2.6,1.75 2.6,-1.75 0.6,-1.75
Mechanical 14:
  lines w0.1: -1.8,-1.8 -1.8,1.8 ; 1.8,-1.8 1.8,1.8 ; -2.4,-1.8 2.4,-1.8 2.4,1.8 -2.4,1.8 -2.4,-1.8
Mechanical 15:
  lines w0.05: -2.85,-2.05 -2.85,2.05 2.85,2.05 2.85,-2.05 -2.85,-2.05
3D body "IND_MURATA-PS_8400.stp": height 2.9, standoff 0, extent -2.4,-1.8 2.4,1.8

## IND_MURATA_BLM31PG [mm] "Chip Ferrite Bead, 3.20mm L X 1.60mm W, BLM31PG Series"
height 1.3
pads (2):
  rect 1.35x1.2 smd: 1(-1.675,0) 2(1.675,0)
Top Overlay:
  lines w0.2: -1.7,-0.9 1.7,-0.9 ; -1.7,0.9 1.7,0.9
Mechanical 8:
  lines w0.1: -2.175,0 -1.675,0 ; -1.675,-0.5 -1.675,0 ; -1.675,0.5 -1.675,0 ; -1.175,0 -1.675,0 ; -0.5,0 0,0 ; 0,-0.5 0,0 ; 0,0.5 0,0 ; 0.5,0 0,0 ; 1.175,0 1.675,0 ; 1.675,-0.5 1.675,0 ; 1.675,0.5 1.675,0 ; 2.175,0 1.675,0 ; -2.35,-0.6 -2.35,0.6 -1,0.6 -1,-0.6 -2.35,-0.6 ; 1,-0.6 1,0.6 2.35,0.6 2.35,-0.6 1,-0.6
Mechanical 14:
  lines w0.1: -1.7,-0.9 1.7,-0.9 1.7,0.9 -1.7,0.9 -1.7,-0.9
Mechanical 15:
  lines w0.05: -2.6,-1.15 2.6,-1.15 2.6,1.15 -2.6,1.15 -2.6,-1.15
3D body "IND_MURATA_BLM31PG.stp": height 1.3, standoff 0, extent -1.6,-0.8 1.6,0.8

## IND_MURATA_DLW5BS [mm] "Common Mode Choke Coil, DLW5BS Series - Body 5.0 x 5.0mm"
height 4.5
pads (4):
  rect 1x1.7 smd: 1(-0.95,-1.5) 2(0.95,-1.5) 3(0.95,1.5) 4(-0.95,1.5)
Top Layer:
  region: -0.45,0.65 -0.45,2.35 -2.75,2.35 -2.75,1.65 -1.45,1.65 -1.45,0.65
  region: 0.45,-0.65 0.45,-2.35 2.75,-2.35 2.75,-1.65 1.45,-1.65 1.45,-0.65
  region: -0.45,-0.65 -0.45,-2.35 -2.75,-2.35 -2.75,-1.65 -1.45,-1.65 -1.45,-0.65
  region: 0.45,0.65 0.45,2.35 2.75,2.35 2.75,1.65 1.45,1.65 1.45,0.65
Top Overlay:
  circle w0.25: c-2,1.1 r0.125
  circle w0.25: c-2,-1.1 r0.125
  lines w0.2: -2.65,-2.65 2.65,-2.65 ; -2.65,-1.35 -2.65,1.35 ; -2.65,2.65 2.65,2.65 ; 2.65,-1.35 2.65,1.35
  text "1" at -3.6,-2.25 h1
Mechanical 8:
  lines w0.1: -1.45,-1.5 -0.95,-1.5 ; -1.45,1.5 -0.95,1.5 ; -0.95,-2 -0.95,-1.5 ; -0.95,-1 -0.95,-1.5 ; -0.95,1 -0.95,1.5 ; -0.95,2 -0.95,1.5 ; -0.5,0 0,0 ; -0.45,-1.5 -0.95,-1.5 ; -0.45,1.5 -0.95,1.5 ; 0,-0.5 0,0 ; 0,0.5 0,0 ; 0.45,-1.5 0.95,-1.5 ; 0.45,1.5 0.95,1.5 ; 0.5,0 0,0 ; 0.95,-2 0.95,-1.5 ; 0.95,-1 0.95,-1.5 ; 0.95,1 0.95,1.5 ; 0.95,2 0.95,1.5 ; 1.45,-1.5 0.95,-1.5 ; 1.45,1.5 0.95,1.5 ; -2.75,-2.35 -0.45,-2.35 -0.45,-0.65 -1.45,-0.65 -1.45,-1.65 -2.75,-1.65 -2.75,-2.35 ; -2.75,1.65 -1.45,1.65 -1.45,0.65 -0.45,0.65 -0.45,2.35 -2.75,2.35 -2.75,1.65 ; 0.45,-2.35 0.45,-0.65 1.45,-0.65 1.45,-1.65 2.75,-1.65 2.75,-2.35 0.45,-2.35 ; 0.45,0.65 1.45,0.65 1.45,1.65 2.75,1.65 2.75,2.35 0.45,2.35 0.45,0.65
Mechanical 14:
  circle w0.25: c-2,-1.1 r0.125
  circle w0.25: c-2,1.1 r0.125
  lines w0.1: -2.65,-2.65 2.65,-2.65 2.65,2.65 -2.65,2.65 -2.65,-2.65
Mechanical 15:
  lines w0.05: -3,-2.9 3,-2.9 3,2.9 -3,2.9 -3,-2.9
3D body "IND_MURATA_DLW5BS.stp": height 4.5, standoff 0, extent -2.65,-2.65 2.65,2.65